# EAGLE library part SI571 (library silabs)
ANY-RATE I2C PROGRAMMABLE XO/VCXO Source: si570.pdf
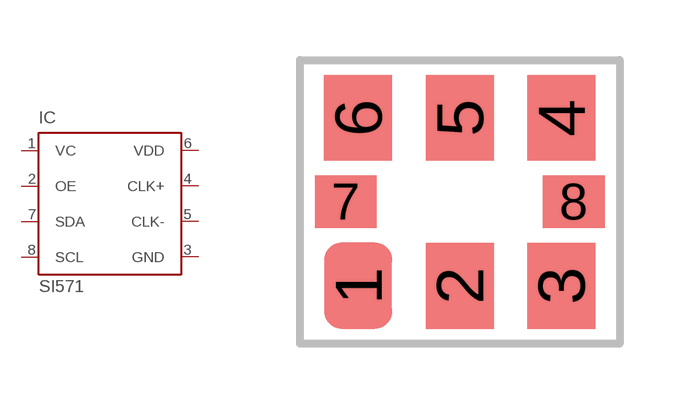
[diagram p5: symbol with the pads of 8-PIN; footprint 8-PIN]

Designator prefix IC

## SI571 (OC_FARNELL: unknown; OC_NEWARK: unknown)  [8-PIN]
1  VC  in
2  OE  in
3  GND  pwr
4  CLK+  out
5  CLK-  out
6  VDD  pwr
7  SDA  in
8  SCL  in

## Footprint 8-PIN (pad centres in mm)
8-Pin PCB Land Pattern Source: si750.pdf
smd 1.7 x 2.15: 1 -2.54,-2.1; 2 0,-2.1; 3 2.54,-2.1; 4 2.54,2.1; 5 0,2.1; 6 -2.54,2.1
smd 1.545 x 1.3: 7 -2.853,0; 8 2.853,0